# EAGLE library part MPL3115A2 (library SparkFun-Sensors-hacked)
Altimeter/Pressure Sensor, I2C, 1.95V-3.6V supply, 50 to 110kPa
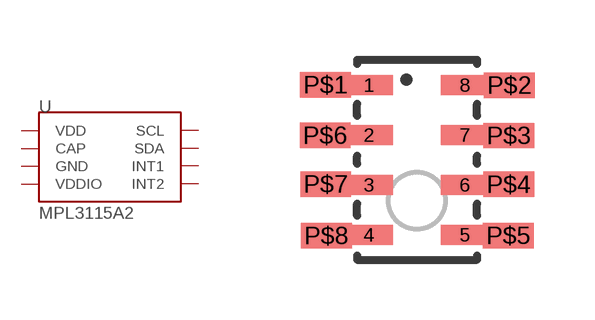
[diagram p45: symbol with the pads of LGA8; footprint LGA8]

Designator prefix U

## MPL3115A2LGA8  [LGA8]
1  VDD  pwr
2  CAP  pwr
3  GND  pwr
4  VDDIO  pwr
5  INT2  out
6  INT1  out
7  SDA
8  SCL

## Footprint LGA8 (pad centres in mm)
LGA8 Package 5.0x3.0x1.2mm 8-pad Used in MPL115A1 -
smd 1.2 x 0.5: 1 -1.2,1.875; 2 -1.2,0.625; 3 -1.2,-0.625; 4 -1.2,-1.875; 5 1.2,-1.875; 6 1.2,-0.625; 7 1.2,0.625; 8 1.2,1.875
smd 1.27 x 0.635: P$1 -2.286,1.876; P$2 2.313,1.867; P$3 2.301,0.605; P$4 2.299,-0.617; P$5 2.29,-1.898; P$6 -2.297,0.609; P$7 -2.281,-0.609; P$8 -2.264,-1.901